# Altium footprint library POWER.PcbLib: 39 footprints (part 2 of 3)
Each footprint in its own frame and in the unit in brackets; x right, y up, seen from the top. Pads: shape width x height; smd on the part's side, far side on the other; paste and mask are expansions set on the pad; w line width, h text height; cw(c..) or ccw(c..) is an arc to the next point about the centre after c.
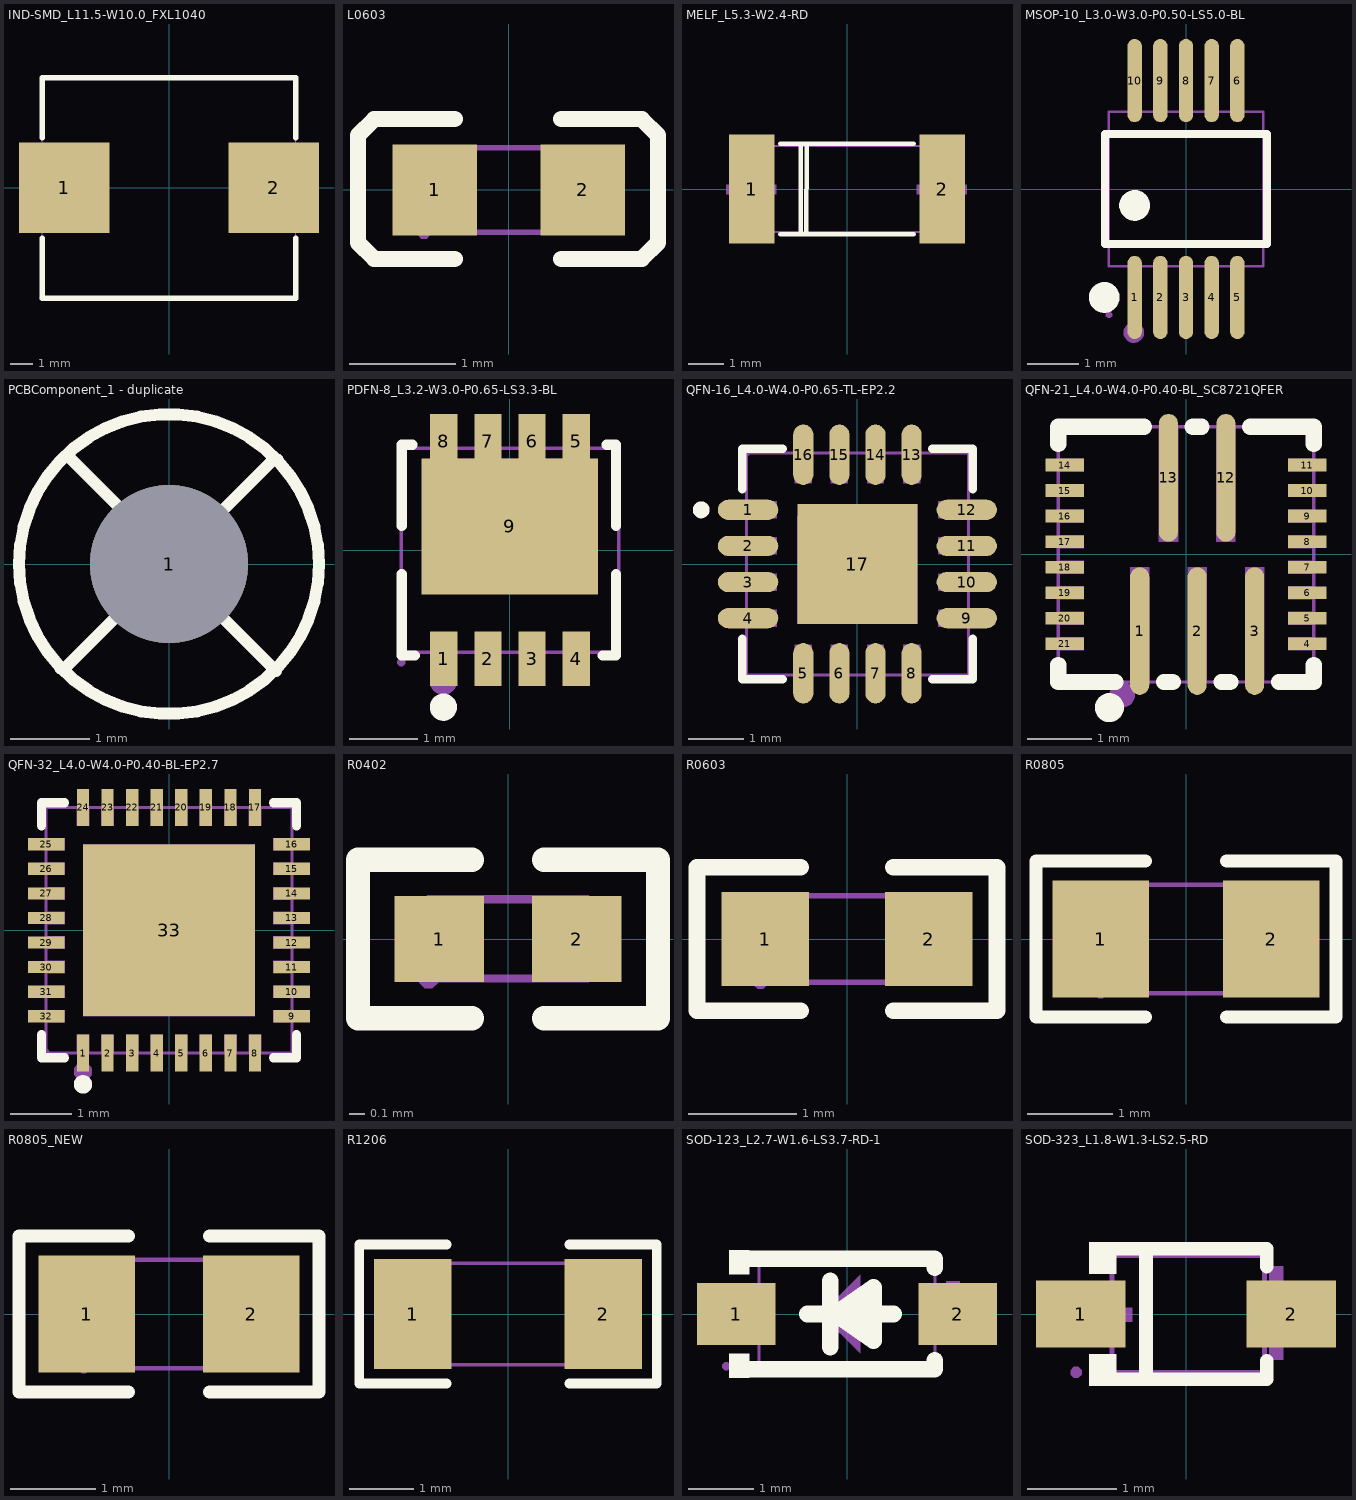
[diagram p1: the footprints below, top view; thin cyan lines are the x and y axes]

## IND-SMD_L11.5-W10.0_FXL1040 [mm]
pads (2):
  rect 4.1x4.1 smd: 1(-4.75,0) 2(4.75,0)
Top Overlay:
  lines w0.254: -5.75,-2.281 -5.75,-5 5.75,-5 5.75,-2.281 ; -5.75,2.281 -5.75,5 5.75,5 5.75,2.281
Mechanical 15:
  region: 3.75,-1.5 3.75,1.5 5.75,1.5 5.75,-1.5
  region: -5.75,-1.5 -5.75,1.5 -3.75,1.5 -3.75,-1.5
  region: -5.85,-5 -5.849,-5.04 -5.791,-5.097 -5.71,-5.097 -5.652,-5.04 -5.65,-5 -5.652,-4.96 -5.71,-4.903 -5.791,-4.903 -5.849,-4.96 -5.85,-5
  lines w0.051: -5.75,-5 -5.75,5 5.75,5 5.75,-5 -5.75,-5

## L0603 [mm]
pads (2):
  rect 0.8x0.864 smd paste-100 mask+0.051: 1(-0.7,0) 2(0.7,0)
Top Overlay:
  lines w0.152: -0.51,-0.651 -1.272,-0.651 -1.424,-0.499 -1.424,0.517 -1.272,0.67 -0.51,0.67 ; 0.496,-0.651 1.258,-0.651 1.411,-0.499 1.411,0.517 1.258,0.67 0.496,0.67
Top Paste:
  region: 0.264,0.154 0.264,-0.122 0.538,-0.416 1.042,-0.416 1.106,-0.352 1.106,0.384 1.042,0.448 0.538,0.448
  region: -0.252,0.143 -0.252,-0.134 -0.526,-0.427 -1.029,-0.427 -1.093,-0.363 -1.093,0.373 -1.029,0.437 -0.526,0.437
Mechanical 15:
  region: -0.8,-0.34 -0.825,-0.34 -0.86,-0.375 -0.86,-0.425 -0.825,-0.46 -0.8,-0.46 -0.775,-0.46 -0.74,-0.425 -0.74,-0.375 -0.775,-0.34 -0.8,-0.34
  region: -0.5,-0.4 -0.8,-0.4 -0.8,0.4 -0.5,0.4
  region: 0.8,-0.4 0.5,-0.4 0.5,0.4 0.8,0.4
  lines w0.051: -0.8,-0.4 -0.8,0.4 0.8,0.4 0.8,-0.4 -0.8,-0.4

## MELF_L5.3-W2.4-RD [mil]
pads (2):
  rect 50x120 smd: 1(-105,0) 2(105,0)
Top Overlay:
  lines w5: -73.4,-50 73.4,-50 ; -73.4,50 73.4,50 ; -50.85,-50 -50.85,50 ; -45,-50 -44.47,50
Mechanical 6:
  region: -133,-5.5 -133,4.5 -78,4.5 -78,-5.5
  region: 110.5,-28 100.5,-28 100.5,27 110.5,27
  region: 77,-5.5 77,4.5 132,4.5 132,-5.5
Mechanical 15:
  region: -104.33,47.24 -88.58,47.24 -88.58,-47.24 -104.33,-47.24
  region: 88.58,47.24 104.33,47.24 104.33,-47.24 88.58,-47.24
  region: -106.69,-47.24 -106.69,-48.22 -105.31,-49.6 -103.35,-49.6 -101.97,-48.22 -101.97,-47.24 -101.97,-46.26 -103.35,-44.88 -105.31,-44.88 -106.69,-46.26 -106.69,-47.24
  lines w2: -104.33,-47.24 104.33,-47.24 104.33,47.24 -104.33,47.24 -104.33,-47.24

## MSOP-10_L3.0-W3.0-P0.50-LS5.0-BL [mm]
pads (10):
  oval 0.28x1.62 smd: 1(-1,-2.11) 2(-0.5,-2.11) 3(0,-2.11) 4(0.5,-2.11) 5(1,-2.11) 6(1,2.11) 7(0.5,2.11) 8(0,2.11) 9(-0.5,2.11) 10(-1,2.11)
Top Overlay:
  circle w0.3: c-1.592,-2.11 r0.15
  circle w0.3: c-1,-0.319 r0.15
  lines w0.152: -1.576,-1.071 1.576,-1.071 1.576,1.071 -1.576,1.071 -1.576,-1.071
Mechanical 6:
  circle w0.2: c-1.016,-2.794 r0.1
Mechanical 15:
  region: 0.888,1.91 0.888,1.49 1.112,1.49 1.112,1.91
  region: 0.888,2.45 0.888,1.9 1.112,1.9 1.112,2.45
  region: 0.388,1.91 0.388,1.49 0.612,1.49 0.612,1.91
  region: 0.388,2.45 0.388,1.9 0.612,1.9 0.612,2.45
  region: -0.112,1.91 -0.112,1.49 0.112,1.49 0.112,1.91
  region: -0.112,2.45 -0.112,1.9 0.112,1.9 0.112,2.45
  region: -0.612,1.91 -0.612,1.49 -0.388,1.49 -0.388,1.91
  region: -0.612,2.45 -0.612,1.9 -0.388,1.9 -0.388,2.45
  region: -1.112,1.91 -1.112,1.49 -0.888,1.49 -0.888,1.91
  region: -1.112,2.45 -1.112,1.9 -0.888,1.9 -0.888,2.45
  region: 0.888,-1.91 0.888,-1.49 1.112,-1.49 1.112,-1.91
  region: 0.888,-2.45 0.888,-1.9 1.112,-1.9 1.112,-2.45
  region: 0.388,-1.91 0.388,-1.49 0.612,-1.49 0.612,-1.91
  region: 0.388,-2.45 0.388,-1.9 0.612,-1.9 0.612,-2.45
  region: -0.112,-1.91 -0.112,-1.49 0.112,-1.49 0.112,-1.91
  region: -0.112,-2.45 -0.112,-1.9 0.112,-1.9 0.112,-2.45
  region: -0.612,-1.91 -0.612,-1.49 -0.388,-1.49 -0.388,-1.91
  region: -0.612,-2.45 -0.612,-1.9 -0.388,-1.9 -0.388,-2.45
  region: -1.112,-1.91 -1.112,-1.49 -0.888,-1.49 -0.888,-1.91
  region: -1.112,-2.45 -1.112,-1.9 -0.888,-1.9 -0.888,-2.45
  region: -1.5,-2.39 -1.525,-2.39 -1.56,-2.425 -1.56,-2.475 -1.525,-2.51 -1.5,-2.51 -1.475,-2.51 -1.44,-2.475 -1.44,-2.425 -1.475,-2.39 -1.5,-2.39
  lines w0.051: -1.5,-1.5 1.5,-1.5 1.5,1.5 -1.5,1.5 -1.5,-1.5

## PCBComponent_1 - duplicate [mm]
pads (1):
  round 2 hole 2: 1(0,0)
Top Overlay:
  circle w0.152: c0,0 r1.9
  lines w0.152: -1.372,-1.321 -1.321,-1.321 0,0 ; -1.27,1.372 -1.27,1.357 0,0.087 ; 1.357,-1.357 0,0 ; 1.372,1.321 1.321,1.321 0,0

## PDFN-8_L3.2-W3.0-P0.65-LS3.3-BL [mm]
pads (9):
  rect 0.4x0.8 smd paste-100 mask+0.051: 1(-0.975,-1.6) 2(-0.325,-1.6) 3(0.325,-1.6) 4(0.975,-1.6) 5(0.975,1.6) 6(0.325,1.6) 7(-0.325,1.6) 8(-0.975,1.6)
  rect 2.6x2 smd paste-100 mask+0.051: 9(-0.005,0.35)
Top Overlay:
  circle w0.2: c-0.98,-2.31 r0.1
  lines w0.152: -1.592,-0.354 -1.592,-1.55 -1.396,-1.55 ; -1.592,0.354 -1.592,1.55 -1.434,1.55 ; 1.362,-1.55 1.56,-1.55 1.56,-0.354 ; 1.425,1.55 1.56,1.55 1.56,0.354
Top Paste:
  region: -1.172,1.999 -0.774,1.999 -0.774,1.351 -0.526,1.351 -0.526,2 -0.127,2 -0.127,1.35 0.133,1.35 0.133,2.002 0.525,2.002 0.525,1.349 0.775,1.349 0.775,2 1.176,2 1.176,1.348 1.297,1.348 1.297,-0.649 -1.304,-0.649 -1.304,1.346 -1.175,1.346 -1.175,1.341
  region: 0.775,-2 0.775,-1.2 1.175,-1.2 1.175,-2
  region: 0.125,-2 0.125,-1.2 0.525,-1.2 0.525,-2
  region: -0.525,-2 -0.525,-1.2 -0.125,-1.2 -0.125,-2
  region: -1.175,-2 -1.175,-1.2 -0.775,-1.2 -0.775,-2
Mechanical 6:
  circle w0.2: c-0.98,-1.93 r0.1
Mechanical 15:
  region: 1.113,-1.65 0.838,-1.65 0.838,-1.295 1.113,-1.295
  region: 0.463,-1.65 0.188,-1.65 0.188,-1.295 0.463,-1.295
  region: -0.187,-1.65 -0.462,-1.65 -0.462,-1.295 -0.187,-1.295
  region: -0.838,-1.65 -1.113,-1.65 -1.113,-1.295 -0.838,-1.295
  region: -0.838,1.295 -1.113,1.295 -1.113,1.65 -0.838,1.65
  region: -0.187,1.295 -0.462,1.295 -0.462,1.65 -0.187,1.65
  region: 0.463,1.295 0.188,1.295 0.188,1.65 0.463,1.65
  region: 1.113,1.295 0.838,1.295 0.838,1.65 1.113,1.65
  region: -1.172,1.345 1.163,1.345 1.163,-0.49 -1.172,-0.49
  region: -1.6,-1.59 -1.624,-1.591 -1.658,-1.626 -1.658,-1.674 -1.624,-1.709 -1.6,-1.71 -1.576,-1.709 -1.542,-1.674 -1.542,-1.626 -1.576,-1.591 -1.6,-1.59
  lines w0.051: -1.6,-1.5 1.6,-1.5 1.6,1.5 -1.6,1.5 -1.6,-1.5

## QFN-16_L4.0-W4.0-P0.65-TL-EP2.2 [mil]
pads (17):
  oval 42.8x14.33 smd: 1(-77.5,38.39) 2(-77.5,12.79) 3(-77.5,-12.8) 4(-77.5,-38.39) 9(77.5,-38.39) 10(77.5,-12.8) 11(77.5,12.79) 12(77.5,38.39)
  oval 14.33x42.8 smd: 5(-38.39,-77.5) 6(-12.79,-77.5) 7(12.8,-77.5) 8(38.39,-77.5) 13(38.39,77.5) 14(12.8,77.5) 15(-12.79,77.5) 16(-38.39,77.5)
  rect 85.04x85.04 smd: 17(0,0)
Top Overlay:
  circle w6: c-110.71,38.39 r3
  lines w6: -81.74,-53.05 -81.74,-81.74 -53.05,-81.74 ; -81.74,53.05 -81.74,81.74 -53.05,81.74 ; 53.05,-81.74 81.74,-81.74 81.74,-53.05 ; 53.05,81.74 81.74,81.74 81.74,53.05
Mechanical 6:
  circle w6: c-90.55,38.39 r3
Mechanical 15:
  region: -34.02,42.52 42.52,42.52 42.52,-42.52 -42.52,-42.52 -42.52,34.02
  region: -44.39,57.09 -32.38,57.09 -32.38,78.74 -44.39,78.74
  region: -18.8,57.09 -6.79,57.09 -6.79,78.74 -18.8,78.74
  region: 6.79,57.09 18.8,57.09 18.8,78.74 6.79,78.74
  region: 32.38,57.09 44.39,57.09 44.39,78.74 32.38,78.74
  region: 78.74,44.39 57.09,44.39 57.09,32.38 78.74,32.38
  region: 78.74,18.8 57.09,18.8 57.09,6.79 78.74,6.79
  region: 78.74,-6.79 57.09,-6.79 57.09,-18.8 78.74,-18.8
  region: 78.74,-32.38 57.09,-32.38 57.09,-44.39 78.74,-44.39
  region: 32.38,-57.09 44.39,-57.09 44.39,-78.74 32.38,-78.74
  region: 6.79,-57.09 18.8,-57.09 18.8,-78.74 6.79,-78.74
  region: -18.8,-57.09 -6.79,-57.09 -6.79,-78.74 -18.8,-78.74
  region: -44.39,-57.09 -32.38,-57.09 -32.38,-78.74 -44.39,-78.74
  region: -78.74,-32.38 -57.09,-32.38 -57.09,-44.39 -78.74,-44.39
  region: -78.74,-6.79 -57.09,-6.79 -57.09,-18.8 -78.74,-18.8
  region: -78.74,18.8 -57.09,18.8 -57.09,6.79 -78.74,6.79
  region: -78.74,44.39 -57.09,44.39 -57.09,32.38 -78.74,32.38
  region: -78.74,81.1 -79.72,81.1 -81.1,79.72 -81.1,77.76 -79.72,76.38 -78.74,76.38 -77.76,76.38 -76.38,77.76 -76.38,79.72 -77.76,81.1 -78.74,81.1
  lines w2: -78.74,-78.74 -78.74,78.74 78.74,78.74 78.74,-78.74 -78.74,-78.74

## QFN-21_L4.0-W4.0-P0.40-BL_SC8721QFER [mm]
pads (21):
  oval 0.3x2 smd: 1(-0.725,-1.2) 2(0.175,-1.2) 3(1.075,-1.2) 12(0.625,1.2) 13(-0.275,1.2)
  rect 0.6x0.2 smd: 4(1.9,-1.4) 5(1.9,-1) 6(1.9,-0.6) 7(1.9,-0.2) 8(1.9,0.2) 9(1.9,0.6) 10(1.9,1) 11(1.9,1.4) 14(-1.9,1.4) 15(-1.9,1) 16(-1.9,0.6) 17(-1.9,0.2) 18(-1.9,-0.2) 19(-1.9,-0.6) 20(-1.9,-1) 21(-1.9,-1.4)
Top Overlay:
  circle w0.254: c-1.2,-2.4 r0.1
  lines w0.254: -2,-1.731 -2,-2 -1.106,-2 ; -2,1.731 -2,2 -0.656,2 ; -0.344,-2 -0.206,-2 ; 0.106,2 0.244,2 ; 0.556,-2 0.694,-2 ; 1.006,2 2,2 2,1.731 ; 1.456,-2 2,-2 2,-1.731
Mechanical 6:
  circle w0.2: c-1,-2.2 r0.1
Mechanical 15:
  region: 0.475,2 0.775,2 0.775,0.2 0.475,0.2
  region: -0.425,2 -0.125,2 -0.125,0.2 -0.425,0.2
  region: -0.875,-0.2 -0.575,-0.2 -0.575,-2 -0.875,-2
  region: 0.325,-2 0.025,-2 0.025,-0.2 0.325,-0.2
  region: 1.225,-2 0.925,-2 0.925,-0.2 1.225,-0.2
  region: -2,-1.5 -2,-1.3 -1.6,-1.3 -1.6,-1.5
  region: -2,-1.1 -2,-0.9 -1.6,-0.9 -1.6,-1.1
  region: -2,-0.7 -2,-0.5 -1.6,-0.5 -1.6,-0.7
  region: -2,-0.3 -2,-0.1 -1.6,-0.1 -1.6,-0.3
  region: -2,0.1 -2,0.3 -1.6,0.3 -1.6,0.1
  region: -2,0.5 -2,0.7 -1.6,0.7 -1.6,0.5
  region: -2,0.9 -2,1.1 -1.6,1.1 -1.6,0.9
  region: -2,1.3 -2,1.5 -1.6,1.5 -1.6,1.3
  region: 2,1.5 2,1.3 1.6,1.3 1.6,1.5
  region: 2,1.1 2,0.9 1.6,0.9 1.6,1.1
  region: 2,0.7 2,0.5 1.6,0.5 1.6,0.7
  region: 2,0.3 2,0.1 1.6,0.1 1.6,0.3
  region: 2,-0.1 2,-0.3 1.6,-0.3 1.6,-0.1
  region: 2,-0.5 2,-0.7 1.6,-0.7 1.6,-0.5
  region: 2,-0.9 2,-1.1 1.6,-1.1 1.6,-0.9
  region: 2,-1.3 2,-1.5 1.6,-1.5 1.6,-1.3
  region: -2.1,-2 -2.099,-2.041 -2.041,-2.097 -1.96,-2.097 -1.901,-2.041 -1.9,-2 -1.901,-1.959 -1.96,-1.903 -2.041,-1.903 -2.099,-1.959 -2.1,-2
  lines w0.051: -2,-2 -2,2 2,2 2,-2 -2,-2

## QFN-32_L4.0-W4.0-P0.40-BL-EP2.7 [mm]
pads (33):
  rect 0.2x0.6 smd paste-100 mask+0.051: 1(-1.4,-2) 2(-1,-2) 3(-0.6,-2) 4(-0.2,-2) 5(0.2,-2) 6(0.6,-2) 7(1,-2) 8(1.4,-2) 17(1.4,2) 18(1,2) 19(0.6,2) 20(0.2,2) 21(-0.2,2) 22(-0.6,2) 23(-1,2) 24(-1.4,2)
  rect 0.6x0.2 smd paste-100 mask+0.051: 9(2,-1.4) 10(2,-1) 11(2,-0.6) 12(2,-0.2) 13(2,0.2) 14(2,0.6) 15(2,1) 16(2,1.4) 25(-2,1.4) 26(-2,1) 27(-2,0.6) 28(-2,0.2) 29(-2,-0.2) 30(-2,-0.6) 31(-2,-1) 32(-2,-1.4)
  rect 2.8x2.8 smd paste-100 mask+0.051: 33(0,0)
Top Overlay:
  circle w0.15: c-1.4,-2.51 r0.075
  lines w0.152: -2.076,-1.703 -2.076,-2.076 -1.703,-2.076 ; -2.076,1.703 -2.076,2.076 -1.703,2.076 ; 1.703,-2.076 2.076,-2.076 2.076,-1.703 ; 1.703,2.076 2.076,2.076 2.076,1.703
Top Paste:
  drawing of 33 lines, arcs and shapes, not listed
Mechanical 6:
  circle w0.15: c-1.4,-2.3 r0.075
Mechanical 15:
  drawing of 38 lines, arcs and shapes, not listed

## R0402 [mm]
pads (2):
  rect 0.566x0.54 smd paste-100 mask+0.051: 1(-0.433,0) 2(0.433,0)
Top Overlay:
  lines w0.152: -0.226,-0.499 -0.944,-0.499 -0.944,0.499 -0.226,0.499 ; 0.226,-0.499 0.944,-0.499 0.944,0.499 0.226,0.499
Top Paste:
  region: -0.135,-0.23 -0.135,0.23 -0.175,0.27 -0.676,0.27 -0.716,0.23 -0.716,-0.23 -0.676,-0.27 -0.175,-0.27
  region: 0.135,-0.23 0.135,0.23 0.175,0.27 0.676,0.27 0.716,0.23 0.716,-0.23 0.676,-0.27 0.175,-0.27
Mechanical 15:
  region: -0.5,-0.19 -0.525,-0.19 -0.559,-0.225 -0.56,-0.275 -0.525,-0.31 -0.5,-0.31 -0.475,-0.31 -0.441,-0.275 -0.441,-0.225 -0.475,-0.19 -0.5,-0.19
  region: -0.249,0.25 -0.249,-0.25 -0.499,-0.25 -0.499,0.25
  region: 0.251,-0.25 0.251,0.25 0.501,0.25 0.501,-0.25
  lines w0.051: -0.5,-0.25 0.5,-0.25 0.5,0.25 -0.5,0.25 -0.5,-0.25

## R0603 [mm]
pads (2):
  rect 0.806x0.864 smd paste-100 mask+0.051: 1(-0.753,0) 2(0.753,0)
Top Overlay:
  lines w0.152: -0.426,-0.661 -1.385,-0.661 -1.385,0.661 -0.426,0.661 ; 0.426,-0.661 1.385,-0.661 1.385,0.661 0.426,0.661
Top Paste:
  region: -0.355,0.4 -0.355,0.172 -0.735,0.172 -0.735,-0.158 -0.355,-0.158 -0.355,-0.4 -0.405,-0.45 -1.195,-0.45 -1.245,-0.4 -1.245,0.4 -1.195,0.45 -0.405,0.45
  region: 1.195,0.45 0.395,0.45 0.345,0.4 0.345,0.172 0.715,0.172 0.715,-0.158 0.345,-0.158 0.345,-0.4 0.395,-0.45 1.195,-0.45 1.245,-0.4 1.245,0.4
Mechanical 15:
  region: -0.8,-0.34 -0.825,-0.34 -0.86,-0.375 -0.86,-0.425 -0.825,-0.46 -0.8,-0.46 -0.775,-0.46 -0.74,-0.425 -0.74,-0.375 -0.775,-0.34 -0.8,-0.34
  region: 0.8,-0.4 0.8,0.4 0.5,0.4 0.5,-0.4
  region: -0.8,-0.4 -0.8,0.4 -0.5,0.4 -0.5,-0.4
  lines w0.051: -0.8,-0.4 0.8,-0.4 0.8,0.4 -0.8,0.4 -0.8,-0.4

## R0805 [mm]
pads (2):
  rect 1.133x1.377 smd paste-100 mask+0.051: 1(-1,0) 2(1,0)
Top Overlay:
  lines w0.152: -0.476,-0.917 -1.761,-0.917 -1.761,0.917 -0.476,0.917 ; 0.476,-0.917 1.761,-0.917 1.761,0.917 0.476,0.917
Top Paste:
  region: 0.45,-0.64 0.45,-0.22 0.895,-0.22 0.895,0.23 0.455,0.23 0.45,0.64 0.5,0.69 1.65,0.69 1.7,0.64 1.7,-0.64 1.65,-0.69 0.5,-0.69
  region: -1.7,-0.64 -1.7,0.64 -1.65,0.69 -0.5,0.69 -0.45,0.64 -0.445,0.23 -0.895,0.23 -0.895,-0.22 -0.455,-0.22 -0.45,-0.64 -0.5,-0.69 -1.65,-0.69
Mechanical 15:
  region: -1,-0.578 -1.025,-0.578 -1.06,-0.613 -1.06,-0.662 -1.025,-0.698 -1,-0.698 -0.975,-0.698 -0.94,-0.662 -0.94,-0.613 -0.975,-0.578 -1,-0.578
  region: 1,-0.637 1,0.637 0.6,0.637 0.6,-0.637
  region: -1,-0.637 -1,0.637 -0.6,0.637 -0.6,-0.637
  lines w0.051: -1,-0.637 1,-0.637 1,0.637 -1,0.637 -1,-0.637

## R0805_NEW [mm]
pads (2):
  rect 1.133x1.377 smd paste-100 mask+0.051: 1(-0.966,0) 2(0.966,0)
Top Overlay:
  lines w0.152: -0.476,-0.917 -1.761,-0.917 -1.761,0.917 -0.476,0.917 ; 0.476,-0.917 1.761,-0.917 1.761,0.917 0.476,0.917
Top Paste:
  region: -1.62,-0.64 -1.62,0.64 -1.57,0.69 -0.42,0.69 -0.37,0.64 -0.365,0.23 -0.815,0.23 -0.815,-0.22 -0.375,-0.22 -0.37,-0.64 -0.42,-0.69 -1.57,-0.69
  region: 0.37,-0.64 0.37,-0.22 0.815,-0.22 0.815,0.23 0.375,0.23 0.37,0.64 0.42,0.69 1.57,0.69 1.62,0.64 1.62,-0.64 1.57,-0.69 0.42,-0.69
Mechanical 15:
  region: 1,-0.637 1,0.637 0.6,0.637 0.6,-0.637
  region: -1,-0.637 -1,0.637 -0.6,0.637 -0.6,-0.637
  region: -1,-0.578 -1.025,-0.578 -1.06,-0.613 -1.06,-0.662 -1.025,-0.698 -1,-0.698 -0.975,-0.698 -0.94,-0.662 -0.94,-0.613 -0.975,-0.578 -1,-0.578
  lines w0.051: -1,-0.637 1,-0.637 1,0.637 -1,0.637 -1,-0.637

## R1206 [mm]
pads (2):
  rect 1.208x1.701 smd paste-100 mask+0.051: 1(-1.479,0) 2(1.479,0)
Top Overlay:
  lines w0.152: -0.951,-1.079 -2.311,-1.079 -2.311,1.079 -0.951,1.079 ; 0.951,-1.079 2.311,-1.079 2.311,1.079 0.951,1.079
Top Paste:
  region: -0.875,-0.75 -0.875,-0.389 -0.975,-0.289 -1.186,-0.289 -1.286,-0.189 -1.286,0.189 -1.186,0.289 -0.975,0.289 -0.875,0.389 -0.875,0.75 -0.975,0.85 -1.983,0.85 -2.083,0.75 -2.083,-0.75 -1.983,-0.85 -0.975,-0.85
  region: 0.875,-0.75 0.875,-0.389 0.975,-0.289 1.186,-0.289 1.286,-0.189 1.286,0.189 1.186,0.289 0.975,0.289 0.875,0.389 0.875,0.75 0.975,0.85 1.983,0.85 2.083,0.75 2.083,-0.75 1.983,-0.85 0.975,-0.85
Mechanical 15:
  region: 1.55,-0.788 1.55,0.788 1.1,0.788 1.1,-0.788
  region: -1.55,-0.788 -1.55,0.788 -1.1,0.788 -1.1,-0.788
  region: -1.55,-0.727 -1.575,-0.727 -1.61,-0.763 -1.61,-0.812 -1.575,-0.847 -1.55,-0.847 -1.525,-0.847 -1.49,-0.812 -1.49,-0.763 -1.525,-0.727 -1.55,-0.727
  lines w0.051: -1.55,-0.788 1.55,-0.788 1.55,0.788 -1.55,0.788 -1.55,-0.788

## SOD-123_L2.7-W1.6-LS3.7-RD-1 [mm]
pads (2):
  rect 1.2x0.95 smd: 1(-1.7,0) 2(1.7,0)
Top Overlay:
  region: -1.502,-0.977 -1.502,-0.607 -1.806,-0.607 -1.806,-0.977
  region: -1.502,0.977 -1.502,0.607 -1.806,0.607 -1.806,0.977
  region: 0.406,-0.406 0.406,0.406 -0.178,0
  lines w0.254: -1.644,0.849 -1.643,0.85 -1.346,0.85 1.346,0.85 1.346,0.706 ; -1.639,-0.849 -1.638,-0.85 -1.346,-0.85 1.346,-0.85 1.346,-0.706 ; -0.61,0 -0.28,0 ; -0.254,-0.508 -0.254,0.508 ; 0.406,0 0.72,0 ; -0.178,0 0.406,-0.406 0.406,0.406 -0.178,0
Mechanical 6:
  region: -0.4,0 0.2,-0.6 0.2,0.6
  region: -2.042,0.124 -1.2,0.124 -1.2,-0.083 -2.042,-0.083
  region: 1.525,-0.338 1.525,0.504 1.732,0.504 1.732,-0.339
  region: 1.19,0.212 2.032,0.212 2.032,0.005 1.189,0.005
Mechanical 15:
  region: 1.5,-0.275 1.5,0.275 1.85,0.275 1.85,-0.275
  region: 1.34,-0.275 1.34,0.275 1.51,0.275 1.51,-0.275
  region: -1.85,-0.275 -1.85,0.275 -1.5,0.275 -1.5,-0.275
  region: -1.51,-0.275 -1.51,0.275 -1.34,0.275 -1.34,-0.275
  region: -1.85,-0.86 -1.825,-0.86 -1.79,-0.825 -1.79,-0.775 -1.825,-0.74 -1.85,-0.74 -1.875,-0.74 -1.91,-0.775 -1.91,-0.825 -1.875,-0.86 -1.85,-0.86
  lines w0.051: -1.35,-0.8 1.35,-0.8 1.35,0.8 -1.35,0.8 -1.35,-0.8

## SOD-323_L1.8-W1.3-LS2.5-RD [mm]
pads (2):
  rect 1x0.75 smd: 1(-1.173,0) 2(1.173,0)
Top Overlay:
  region: -0.775,-0.802 -0.775,-0.45 -1.08,-0.45 -1.08,-0.802
  region: -0.775,0.802 -0.775,0.45 -1.08,0.45 -1.08,0.802
  lines w0.152: -0.851,-0.726 0.901,-0.726 0.901,-0.52 ; -0.851,0.726 0.901,0.726 0.901,0.53 ; -0.447,-0.726 -0.447,0.726
Mechanical 6:
  region: 1.083,0.53 1.083,-0.51 0.927,-0.51 0.927,0.53
  region: 1.315,0.09 1.315,-0.066 0.691,-0.066 0.691,0.09
  region: -1.225,0.07 -1.225,-0.086 -0.601,-0.086 -0.601,0.07
Mechanical 15:
  region: -0.815,0.16 -0.815,-0.16 -0.935,-0.16 -0.935,0.16
  region: -0.925,0.16 -0.925,-0.16 -1.225,-0.16 -1.225,0.16
  region: 0.985,0.16 0.985,-0.16 0.865,-0.16 0.865,0.16
  region: 1.275,0.16 1.275,-0.16 0.975,-0.16 0.975,0.16
  region: -1.225,-0.59 -1.25,-0.59 -1.285,-0.625 -1.285,-0.675 -1.25,-0.71 -1.225,-0.71 -1.2,-0.71 -1.165,-0.675 -1.165,-0.625 -1.2,-0.59 -1.225,-0.59
  lines w0.051: -0.825,-0.65 -0.825,0.65 0.875,0.65 0.875,-0.65 -0.825,-0.65